# EAGLE library part EEE-FT1H331AV (library EEE-FT1H331AV)
Aluminium Electroyltic Capacitor, Radial, Vibration-Proof Source: Datasheet <http://industrial.panasonic.com/cdbs/www-data/pdf/RDE0000/ABA0000C1240.pdf>
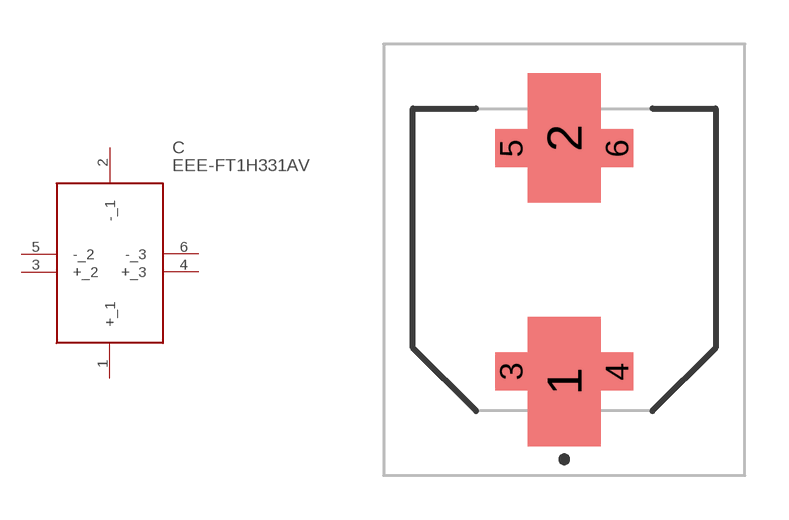
[diagram p0: symbol with the pads of EEHZT1E561UV; footprint EEHZT1E561UV]

Designator prefix C

## EEE-FT1H331AV (Description: Aluminium Electroyltic Capacitor, Radial, Vibration-Proof; Height: 10.5mm; Manufacturer_Name: Panasonic; Manufacturer_Part_Number: EEE-FT1H331AV; Mouser_Part_Number: 667-EEE-FT1H331AV; Mouser_Price-Stock: https://www.mouser.co.uk/ProductDetail/Panasonic/EEE-FT1H331AV?qs=rrS6PyfT74fpXB09SUUxFg%3D%3D)  [EEHZT1E561UV]
1  +_1
2  -_1
3  +_2
4  +_3
5  -_2
6  -_3

## Footprint EEHZT1E561UV (pad centres in mm)
VibrationProof_G
smd 2.5 x 4.4: 1 0,-4.15; 2 0,4.15
smd 1.1 x 1.3: 3 -1.8,-3.8; 4 1.8,-3.8; 5 -1.8,3.8; 6 1.8,3.8